# Altium integrated library Linear Technology Operational Amplifiers (LT1000).IntLib: 2280 symbols (part 63 of 79)
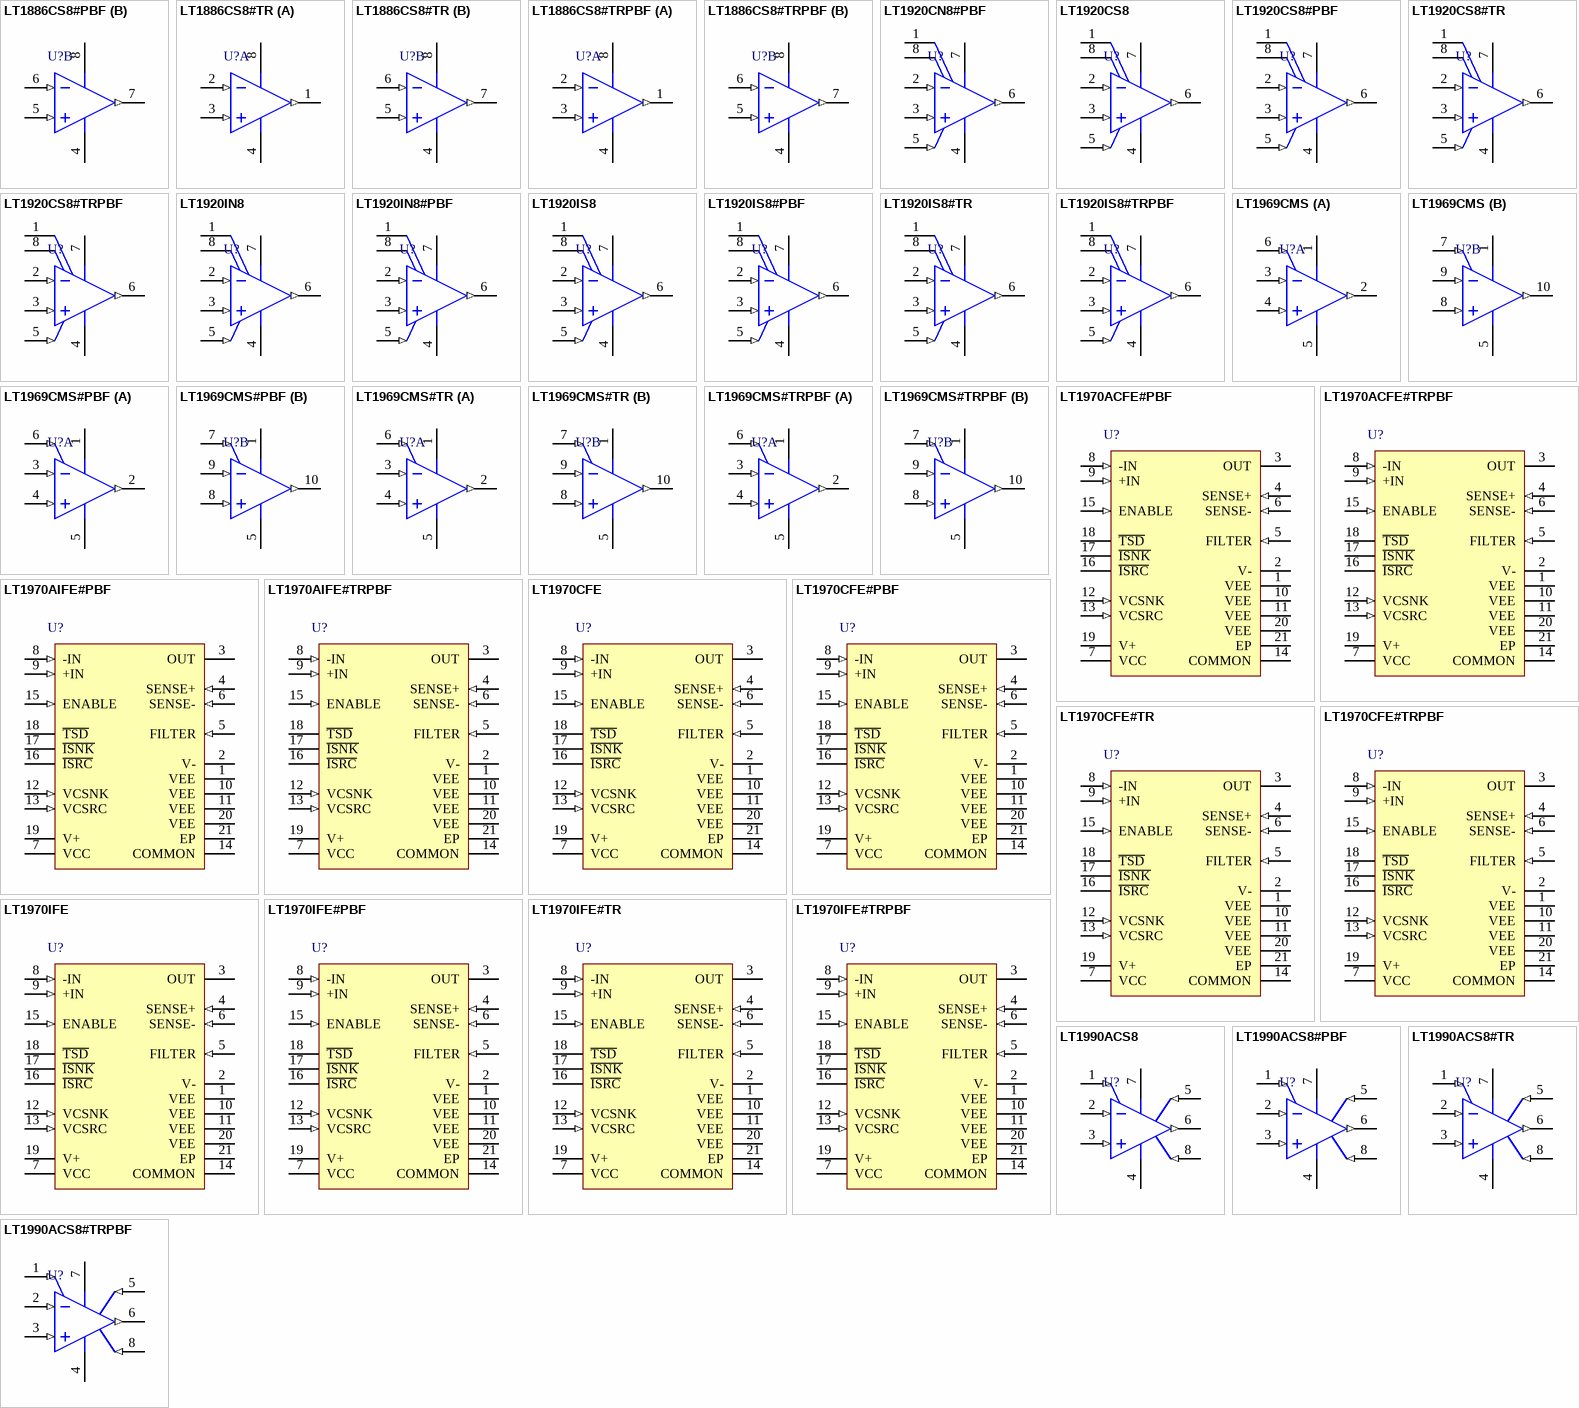
[diagram p167: symbols LT1886CS8#PBF to LT1990ACS8#TRPBF]

## LT1970IFE
designator U?
Single Channel, 500mA Power Op Amp with Adjustable Precision Current Limit, 3.6 MHz Typical GBW, 1.6 V/us Typical SR, 5 to 36 V, 20-Pin SOP (FE-20), Industrial; Linear Technology Part Number: LT1970A; Manufacturer: Linear Technology; PartNumber: LT1970IFE; Channels (#): 1; GBW (MHz) Typical: 3.6; Is (mA) Typical: 7; SR (V/us) Typical: 1.6; Vos (mV) Guaranteed: 0.6; Vos (mV) Typical: 0.2; Vs Max (V): 36; Vs Min (V): 5; DatasheetVersion: Rev. A; PackageVersion: Rev I; PackageReference: LT-FE-20-EPV-CA; PackageDescription: 20-Lead Plastic TSSOP, Body 6.50 x 4.40 mm, Pitch 0.65 mm; Supplier 1: Digi-Key; Supplier Part Number 1: LT1970IFE-ND; Type: VFB; Mounting Technology: Surface Mount; ComponentLink1Description: Manufacturer URL; ComponentLink1URL: http://www.linear.com/; ComponentLink2Description: Datasheet; ComponentLink2URL: http://www.linear.com/docs/en/datasheet/1970afa.pdf; ComponentLink3Description: Package Specification; ComponentLink3URL: http://cds.linear.com/docs/en/packaging/05081663_I_FE20%28CA%29.pdf
footprint LT-FE-20-EPV-CA_N (SOP, 20-Leads, Body 6.5x4.4mm, Pitch 0.65mm, Thermal Pad 4.95 x 2.74mm, IPC Medium Density)
footprint LT-FE-20-EPV-CA_L (SOP, 20-Leads, Body 6.5x4.4mm, Pitch 0.65mm, Thermal Pad 4.95 x 2.74mm, IPC High Density)
footprint LT-FE-20-EPV-CA_M (SOP, 20-Leads, Body 6.5x4.4mm, Pitch 0.65mm, Thermal Pad 4.95 x2.74mm, IPC Low Density)
pins: 1 VEE (power) "Minus Supply Voltage. VEEconnects to the substrate of the integrated circuit die, and therefore must always be the most negative voltage applied to the part. Decouple VEE to ground with a low ESR capacitor. VEE may be a (See Datasheet)", 2 V- (power) "Output Stage Negative Supply. V- may equal VEE or may be smaller in magnitude. Only output stage current flows out of V-, all other current flows out of VEE.V- may be used to drive the base/gate of an external power device (See Datasheet)", 3 OUT (hiz) "Amplifier Output. The OUT pin provides the force function as part of a Kelvin sensed load connection.OUT is normally connected directly to an external load current sense resistor and the SENSE+ pin. Amplifier feedback is (See Datasheet)", 4 SENSE+ (in) "Positive Current Sense Pin. This lead is normally connected to the driven end of the external sense resistor. Sourcing current limit operation is activated when the voltage VSENSE (VSENSE+ - VSENSE-) equals 1/10 of the (See Datasheet)", 5 FILTER (in) "Current Sense Filter Pin. This pin is normally not used and should be left open or shorted to the SENSE- pin. The FILTER pin can be used to adapt the response time of the current sense amplifiers with a 1nF to 100nF (See Datasheet)", 6 SENSE- (in) "Negative Current Sense Pin. This pin is normally connected to the load end of the external sense resistor. Sourcing current limit operation is activated when the voltage VSENSE (VSENSE+ - VSENSE-) equals 1/10 of the (See Datasheet)", 7 VCC (power) "Positive Supply Voltage. All circuitry except the output transistors draw power from VCC. Total supply voltage from VCC to VEE must be between 3.5V and 36V.VCC must always be greater than or equal to V+. VCC should always be (See Datasheet)", 8 -IN (in) "Inverting Input of Amplifier. -IN may be any voltage from VEE - 0.3V to VEE + 36V. -IN and +IN remain high impedance at all times to prevent current flow into the inputs when current limit mode is active. Care must be taken (See Datasheet)", 9 +IN (in) "Noninverting Input of Amplifier. +IN may be any voltage from VEE - 0.3V to VEE + 36V. -IN and +IN remain high impedance at all times to prevent current flow into the inputs when current limit mode is active. Care must be (See Datasheet)", 10 VEE (power) "Minus Supply Voltage. VEEconnects to the substrate of the integrated circuit die, and therefore must always be the most negative voltage applied to the part. Decouple VEE to ground with a low ESR capacitor. VEE may be a (See Datasheet)", 11 VEE (power) "Minus Supply Voltage. VEEconnects to the substrate of the integrated circuit die, and therefore must always be the most negative voltage applied to the part. Decouple VEE to ground with a low ESR capacitor. VEE may be a (See Datasheet)", 12 VCSNK (in) "Sink Current Limit Control Voltage Input.The current sink limit amplifier will activate when the sense voltage between SENSE+ and SENSE- equals -1.0 • VVCSNK/10. VCSNK may be set between VCOMMON and VCOMMON + 6V. The (See Datasheet)", 13 VCSRC (in) "Source Current Limit Control Voltage Input. The current source limit amplifier will activate when the sense voltage between SENSE+ and SENSE- equals VVCSRC/10. VCSRC may be set between VCOMMON and VCOMMON + 6V. The transfer (See Datasheet)", 14 COMMON (power) "Control and ENABLE inputs and flag outputs are referenced to the COMMON pin. COMMON may be at any potential between VEE and VCC - 3V. In typical applications, COMMON is connected to ground.", 15 ENABLE (in) "ENABLE Digital Input Control. When taken low this TTL-level digital input turns off the amplifier output and drops supply current to less than 1mA.Use the ENABLE pin to force zero output current. Setting VCSNK = VCSRC = 0V (See Datasheet)", 16 ~{ISRC} (oc) "Sourcing Current Limit Digital Output Flag.I\S\R\C\ is an open-collector digital output. I\S\R\C\ pulls low whenever the sourcing current limit amplifier assumes control of the output. This pin can sink up to 10mA of current.(See Datasheet)", 17 ~{ISNK} (oc) "Sinking Current Limit Digital Output Flag.I\S\N\K\ is an open-collector digital output. I\S\N\K\ pulls low whenever the sinking current limit amplifier assumes control of the output. This pin can sink up to 10mA of current. (See Datasheet)", 18 ~{TSD} (oc) "Thermal Shutdown Digital Output Flag. T\S\D\ is an open-collector digital output. T\S\D\ pulls low whenever the internal thermal shutdown circuit activates, typically at a die temperature of 160degreesC. This pin can sink up (See Datasheet)", 19 V+ (power) "Output Stage Positive Supply. V+ may equal VCC or may be smaller in magnitude. Only output stage current flows through V+, all other current flows into VCC.V+ may be used to drive the base/gate of an external power device to (See Datasheet)", 20 VEE (power) "Minus Supply Voltage. VEEconnects to the substrate of the integrated circuit die, and therefore must always be the most negative voltage applied to the part. Decouple VEE to ground with a low ESR capacitor. VEE may be a (See Datasheet)", 21 EP (power) "The exposed backside of the package is electrically connected to the VEE pins on the IC die.The package base should be soldered to a heat spreading pad on the PC board that is electrically connected to VEE."

## LT1970IFE#PBF
designator U?
Single Channel, 500mA Power Op Amp with Adjustable Precision Current Limit, 3.6 MHz Typical GBW, 1.6 V/us Typical SR, 5 to 36 V, 20-Pin SOP (FE-20), Industrial, Pb-Free; Linear Technology Part Number: LT1970A; Manufacturer: Linear Technology; PartNumber: LT1970IFE#PBF; Channels (#): 1; GBW (MHz) Typical: 3.6; Is (mA) Typical: 7; SR (V/us) Typical: 1.6; Vos (mV) Guaranteed: 0.6; Vos (mV) Typical: 0.2; Vs Max (V): 36; Vs Min (V): 5; DatasheetVersion: Rev. A; PackageVersion: Rev I; PackageReference: LT-FE-20-EPV-CA; PackageDescription: 20-Lead Plastic TSSOP, Body 6.50 x 4.40 mm, Pitch 0.65 mm; Supplier 1: Digi-Key; Supplier Part Number 1: LT1970IFE#PBF-ND; Supplier 2: Farnell; Supplier Part Number 2: 2294689; Supplier 3: Newark; Supplier Part Number 3: 57M7615; RoHS: Pb-Free; Type: VFB; Mounting Technology: Surface Mount; ComponentLink1Description: Manufacturer URL; ComponentLink1URL: http://www.linear.com/; ComponentLink2Description: Datasheet; ComponentLink2URL: http://www.linear.com/docs/en/datasheet/1970afa.pdf; ComponentLink3Description: Package Specification; ComponentLink3URL: http://cds.linear.com/docs/en/packaging/05081663_I_FE20%28CA%29.pdf
footprint LT-FE-20-EPV-CA_N (SOP, 20-Leads, Body 6.5x4.4mm, Pitch 0.65mm, Thermal Pad 4.95 x 2.74mm, IPC Medium Density)
footprint LT-FE-20-EPV-CA_L (SOP, 20-Leads, Body 6.5x4.4mm, Pitch 0.65mm, Thermal Pad 4.95 x 2.74mm, IPC High Density)
footprint LT-FE-20-EPV-CA_M (SOP, 20-Leads, Body 6.5x4.4mm, Pitch 0.65mm, Thermal Pad 4.95 x2.74mm, IPC Low Density)
pins: 1 VEE (power) "Minus Supply Voltage. VEEconnects to the substrate of the integrated circuit die, and therefore must always be the most negative voltage applied to the part. Decouple VEE to ground with a low ESR capacitor. VEE may be a (See Datasheet)", 2 V- (power) "Output Stage Negative Supply. V- may equal VEE or may be smaller in magnitude. Only output stage current flows out of V-, all other current flows out of VEE.V- may be used to drive the base/gate of an external power device (See Datasheet)", 3 OUT (hiz) "Amplifier Output. The OUT pin provides the force function as part of a Kelvin sensed load connection.OUT is normally connected directly to an external load current sense resistor and the SENSE+ pin. Amplifier feedback is (See Datasheet)", 4 SENSE+ (in) "Positive Current Sense Pin. This lead is normally connected to the driven end of the external sense resistor. Sourcing current limit operation is activated when the voltage VSENSE (VSENSE+ - VSENSE-) equals 1/10 of the (See Datasheet)", 5 FILTER (in) "Current Sense Filter Pin. This pin is normally not used and should be left open or shorted to the SENSE- pin. The FILTER pin can be used to adapt the response time of the current sense amplifiers with a 1nF to 100nF (See Datasheet)", 6 SENSE- (in) "Negative Current Sense Pin. This pin is normally connected to the load end of the external sense resistor. Sourcing current limit operation is activated when the voltage VSENSE (VSENSE+ - VSENSE-) equals 1/10 of the (See Datasheet)", 7 VCC (power) "Positive Supply Voltage. All circuitry except the output transistors draw power from VCC. Total supply voltage from VCC to VEE must be between 3.5V and 36V.VCC must always be greater than or equal to V+. VCC should always be (See Datasheet)", 8 -IN (in) "Inverting Input of Amplifier. -IN may be any voltage from VEE - 0.3V to VEE + 36V. -IN and +IN remain high impedance at all times to prevent current flow into the inputs when current limit mode is active. Care must be taken (See Datasheet)", 9 +IN (in) "Noninverting Input of Amplifier. +IN may be any voltage from VEE - 0.3V to VEE + 36V. -IN and +IN remain high impedance at all times to prevent current flow into the inputs when current limit mode is active. Care must be (See Datasheet)", 10 VEE (power) "Minus Supply Voltage. VEEconnects to the substrate of the integrated circuit die, and therefore must always be the most negative voltage applied to the part. Decouple VEE to ground with a low ESR capacitor. VEE may be a (See Datasheet)", 11 VEE (power) "Minus Supply Voltage. VEEconnects to the substrate of the integrated circuit die, and therefore must always be the most negative voltage applied to the part. Decouple VEE to ground with a low ESR capacitor. VEE may be a (See Datasheet)", 12 VCSNK (in) "Sink Current Limit Control Voltage Input.The current sink limit amplifier will activate when the sense voltage between SENSE+ and SENSE- equals -1.0 • VVCSNK/10. VCSNK may be set between VCOMMON and VCOMMON + 6V. The (See Datasheet)", 13 VCSRC (in) "Source Current Limit Control Voltage Input. The current source limit amplifier will activate when the sense voltage between SENSE+ and SENSE- equals VVCSRC/10. VCSRC may be set between VCOMMON and VCOMMON + 6V. The transfer (See Datasheet)", 14 COMMON (power) "Control and ENABLE inputs and flag outputs are referenced to the COMMON pin. COMMON may be at any potential between VEE and VCC - 3V. In typical applications, COMMON is connected to ground.", 15 ENABLE (in) "ENABLE Digital Input Control. When taken low this TTL-level digital input turns off the amplifier output and drops supply current to less than 1mA.Use the ENABLE pin to force zero output current. Setting VCSNK = VCSRC = 0V (See Datasheet)", 16 ~{ISRC} (oc) "Sourcing Current Limit Digital Output Flag.I\S\R\C\ is an open-collector digital output. I\S\R\C\ pulls low whenever the sourcing current limit amplifier assumes control of the output. This pin can sink up to 10mA of current.(See Datasheet)", 17 ~{ISNK} (oc) "Sinking Current Limit Digital Output Flag.I\S\N\K\ is an open-collector digital output. I\S\N\K\ pulls low whenever the sinking current limit amplifier assumes control of the output. This pin can sink up to 10mA of current. (See Datasheet)", 18 ~{TSD} (oc) "Thermal Shutdown Digital Output Flag. T\S\D\ is an open-collector digital output. T\S\D\ pulls low whenever the internal thermal shutdown circuit activates, typically at a die temperature of 160degreesC. This pin can sink up (See Datasheet)", 19 V+ (power) "Output Stage Positive Supply. V+ may equal VCC or may be smaller in magnitude. Only output stage current flows through V+, all other current flows into VCC.V+ may be used to drive the base/gate of an external power device to (See Datasheet)", 20 VEE (power) "Minus Supply Voltage. VEEconnects to the substrate of the integrated circuit die, and therefore must always be the most negative voltage applied to the part. Decouple VEE to ground with a low ESR capacitor. VEE may be a (See Datasheet)", 21 EP (power) "The exposed backside of the package is electrically connected to the VEE pins on the IC die.The package base should be soldered to a heat spreading pad on the PC board that is electrically connected to VEE."

## LT1970IFE#TR
designator U?
Single Channel, 500mA Power Op Amp with Adjustable Precision Current Limit, 3.6 MHz Typical GBW, 1.6 V/us Typical SR, 5 to 36 V, 20-Pin SOP (FE-20), Industrial, Reel; Linear Technology Part Number: LT1970A; Manufacturer: Linear Technology; PartNumber: LT1970IFE#TR; Channels (#): 1; GBW (MHz) Typical: 3.6; Is (mA) Typical: 7; SR (V/us) Typical: 1.6; Vos (mV) Guaranteed: 0.6; Vos (mV) Typical: 0.2; Vs Max (V): 36; Vs Min (V): 5; DatasheetVersion: Rev. A; PackageVersion: Rev I; PackageReference: LT-FE-20-EPV-CA; PackageDescription: 20-Lead Plastic TSSOP, Body 6.50 x 4.40 mm, Pitch 0.65 mm; Supplier 1: Digi-Key; Supplier Part Number 1: LT1970IFE#TR-ND; Packing: Reel; Type: VFB; Mounting Technology: Surface Mount; ComponentLink1Description: Manufacturer URL; ComponentLink1URL: http://www.linear.com/; ComponentLink2Description: Datasheet; ComponentLink2URL: http://www.linear.com/docs/en/datasheet/1970afa.pdf; ComponentLink3Description: Package Specification; ComponentLink3URL: http://cds.linear.com/docs/en/packaging/05081663_I_FE20%28CA%29.pdf
footprint LT-FE-20-EPV-CA_N (SOP, 20-Leads, Body 6.5x4.4mm, Pitch 0.65mm, Thermal Pad 4.95 x 2.74mm, IPC Medium Density)
footprint LT-FE-20-EPV-CA_L (SOP, 20-Leads, Body 6.5x4.4mm, Pitch 0.65mm, Thermal Pad 4.95 x 2.74mm, IPC High Density)
footprint LT-FE-20-EPV-CA_M (SOP, 20-Leads, Body 6.5x4.4mm, Pitch 0.65mm, Thermal Pad 4.95 x2.74mm, IPC Low Density)
pins: 1 VEE (power) "Minus Supply Voltage. VEEconnects to the substrate of the integrated circuit die, and therefore must always be the most negative voltage applied to the part. Decouple VEE to ground with a low ESR capacitor. VEE may be a (See Datasheet)", 2 V- (power) "Output Stage Negative Supply. V- may equal VEE or may be smaller in magnitude. Only output stage current flows out of V-, all other current flows out of VEE.V- may be used to drive the base/gate of an external power device (See Datasheet)", 3 OUT (hiz) "Amplifier Output. The OUT pin provides the force function as part of a Kelvin sensed load connection.OUT is normally connected directly to an external load current sense resistor and the SENSE+ pin. Amplifier feedback is (See Datasheet)", 4 SENSE+ (in) "Positive Current Sense Pin. This lead is normally connected to the driven end of the external sense resistor. Sourcing current limit operation is activated when the voltage VSENSE (VSENSE+ - VSENSE-) equals 1/10 of the (See Datasheet)", 5 FILTER (in) "Current Sense Filter Pin. This pin is normally not used and should be left open or shorted to the SENSE- pin. The FILTER pin can be used to adapt the response time of the current sense amplifiers with a 1nF to 100nF (See Datasheet)", 6 SENSE- (in) "Negative Current Sense Pin. This pin is normally connected to the load end of the external sense resistor. Sourcing current limit operation is activated when the voltage VSENSE (VSENSE+ - VSENSE-) equals 1/10 of the (See Datasheet)", 7 VCC (power) "Positive Supply Voltage. All circuitry except the output transistors draw power from VCC. Total supply voltage from VCC to VEE must be between 3.5V and 36V.VCC must always be greater than or equal to V+. VCC should always be (See Datasheet)", 8 -IN (in) "Inverting Input of Amplifier. -IN may be any voltage from VEE - 0.3V to VEE + 36V. -IN and +IN remain high impedance at all times to prevent current flow into the inputs when current limit mode is active. Care must be taken (See Datasheet)", 9 +IN (in) "Noninverting Input of Amplifier. +IN may be any voltage from VEE - 0.3V to VEE + 36V. -IN and +IN remain high impedance at all times to prevent current flow into the inputs when current limit mode is active. Care must be (See Datasheet)", 10 VEE (power) "Minus Supply Voltage. VEEconnects to the substrate of the integrated circuit die, and therefore must always be the most negative voltage applied to the part. Decouple VEE to ground with a low ESR capacitor. VEE may be a (See Datasheet)", 11 VEE (power) "Minus Supply Voltage. VEEconnects to the substrate of the integrated circuit die, and therefore must always be the most negative voltage applied to the part. Decouple VEE to ground with a low ESR capacitor. VEE may be a (See Datasheet)", 12 VCSNK (in) "Sink Current Limit Control Voltage Input.The current sink limit amplifier will activate when the sense voltage between SENSE+ and SENSE- equals -1.0 • VVCSNK/10. VCSNK may be set between VCOMMON and VCOMMON + 6V. The (See Datasheet)", 13 VCSRC (in) "Source Current Limit Control Voltage Input. The current source limit amplifier will activate when the sense voltage between SENSE+ and SENSE- equals VVCSRC/10. VCSRC may be set between VCOMMON and VCOMMON + 6V. The transfer (See Datasheet)", 14 COMMON (power) "Control and ENABLE inputs and flag outputs are referenced to the COMMON pin. COMMON may be at any potential between VEE and VCC - 3V. In typical applications, COMMON is connected to ground.", 15 ENABLE (in) "ENABLE Digital Input Control. When taken low this TTL-level digital input turns off the amplifier output and drops supply current to less than 1mA.Use the ENABLE pin to force zero output current. Setting VCSNK = VCSRC = 0V (See Datasheet)", 16 ~{ISRC} (oc) "Sourcing Current Limit Digital Output Flag.I\S\R\C\ is an open-collector digital output. I\S\R\C\ pulls low whenever the sourcing current limit amplifier assumes control of the output. This pin can sink up to 10mA of current.(See Datasheet)", 17 ~{ISNK} (oc) "Sinking Current Limit Digital Output Flag.I\S\N\K\ is an open-collector digital output. I\S\N\K\ pulls low whenever the sinking current limit amplifier assumes control of the output. This pin can sink up to 10mA of current. (See Datasheet)", 18 ~{TSD} (oc) "Thermal Shutdown Digital Output Flag. T\S\D\ is an open-collector digital output. T\S\D\ pulls low whenever the internal thermal shutdown circuit activates, typically at a die temperature of 160degreesC. This pin can sink up (See Datasheet)", 19 V+ (power) "Output Stage Positive Supply. V+ may equal VCC or may be smaller in magnitude. Only output stage current flows through V+, all other current flows into VCC.V+ may be used to drive the base/gate of an external power device to (See Datasheet)", 20 VEE (power) "Minus Supply Voltage. VEEconnects to the substrate of the integrated circuit die, and therefore must always be the most negative voltage applied to the part. Decouple VEE to ground with a low ESR capacitor. VEE may be a (See Datasheet)", 21 EP (power) "The exposed backside of the package is electrically connected to the VEE pins on the IC die.The package base should be soldered to a heat spreading pad on the PC board that is electrically connected to VEE."

## LT1970IFE#TRPBF
designator U?
Single Channel, 500mA Power Op Amp with Adjustable Precision Current Limit, 3.6 MHz Typical GBW, 1.6 V/us Typical SR, 5 to 36 V, 20-Pin SOP (FE-20), Industrial, Pb-Free, Reel; Linear Technology Part Number: LT1970A; Manufacturer: Linear Technology; PartNumber: LT1970IFE#TRPBF; Channels (#): 1; GBW (MHz) Typical: 3.6; Is (mA) Typical: 7; SR (V/us) Typical: 1.6; Vos (mV) Guaranteed: 0.6; Vos (mV) Typical: 0.2; Vs Max (V): 36; Vs Min (V): 5; DatasheetVersion: Rev. A; PackageVersion: Rev I; PackageReference: LT-FE-20-EPV-CA; PackageDescription: 20-Lead Plastic TSSOP, Body 6.50 x 4.40 mm, Pitch 0.65 mm; Supplier 1: Digi-Key; Supplier Part Number 1: LT1970IFE#TRPBF-ND; Supplier 2: Newark; Supplier Part Number 2: 57M7617; Packing: Reel; RoHS: Pb-Free; Type: VFB; Mounting Technology: Surface Mount; ComponentLink1Description: Manufacturer URL; ComponentLink1URL: http://www.linear.com/; ComponentLink2Description: Datasheet; ComponentLink2URL: http://www.linear.com/docs/en/datasheet/1970afa.pdf; ComponentLink3Description: Package Specification; ComponentLink3URL: http://cds.linear.com/docs/en/packaging/05081663_I_FE20%28CA%29.pdf
footprint LT-FE-20-EPV-CA_N (SOP, 20-Leads, Body 6.5x4.4mm, Pitch 0.65mm, Thermal Pad 4.95 x 2.74mm, IPC Medium Density)
footprint LT-FE-20-EPV-CA_L (SOP, 20-Leads, Body 6.5x4.4mm, Pitch 0.65mm, Thermal Pad 4.95 x 2.74mm, IPC High Density)
footprint LT-FE-20-EPV-CA_M (SOP, 20-Leads, Body 6.5x4.4mm, Pitch 0.65mm, Thermal Pad 4.95 x2.74mm, IPC Low Density)
pins: 1 VEE (power) "Minus Supply Voltage. VEEconnects to the substrate of the integrated circuit die, and therefore must always be the most negative voltage applied to the part. Decouple VEE to ground with a low ESR capacitor. VEE may be a (See Datasheet)", 2 V- (power) "Output Stage Negative Supply. V- may equal VEE or may be smaller in magnitude. Only output stage current flows out of V-, all other current flows out of VEE.V- may be used to drive the base/gate of an external power device (See Datasheet)", 3 OUT (hiz) "Amplifier Output. The OUT pin provides the force function as part of a Kelvin sensed load connection.OUT is normally connected directly to an external load current sense resistor and the SENSE+ pin. Amplifier feedback is (See Datasheet)", 4 SENSE+ (in) "Positive Current Sense Pin. This lead is normally connected to the driven end of the external sense resistor. Sourcing current limit operation is activated when the voltage VSENSE (VSENSE+ - VSENSE-) equals 1/10 of the (See Datasheet)", 5 FILTER (in) "Current Sense Filter Pin. This pin is normally not used and should be left open or shorted to the SENSE- pin. The FILTER pin can be used to adapt the response time of the current sense amplifiers with a 1nF to 100nF (See Datasheet)", 6 SENSE- (in) "Negative Current Sense Pin. This pin is normally connected to the load end of the external sense resistor. Sourcing current limit operation is activated when the voltage VSENSE (VSENSE+ - VSENSE-) equals 1/10 of the (See Datasheet)", 7 VCC (power) "Positive Supply Voltage. All circuitry except the output transistors draw power from VCC. Total supply voltage from VCC to VEE must be between 3.5V and 36V.VCC must always be greater than or equal to V+. VCC should always be (See Datasheet)", 8 -IN (in) "Inverting Input of Amplifier. -IN may be any voltage from VEE - 0.3V to VEE + 36V. -IN and +IN remain high impedance at all times to prevent current flow into the inputs when current limit mode is active. Care must be taken (See Datasheet)", 9 +IN (in) "Noninverting Input of Amplifier. +IN may be any voltage from VEE - 0.3V to VEE + 36V. -IN and +IN remain high impedance at all times to prevent current flow into the inputs when current limit mode is active. Care must be (See Datasheet)", 10 VEE (power) "Minus Supply Voltage. VEEconnects to the substrate of the integrated circuit die, and therefore must always be the most negative voltage applied to the part. Decouple VEE to ground with a low ESR capacitor. VEE may be a (See Datasheet)", 11 VEE (power) "Minus Supply Voltage. VEEconnects to the substrate of the integrated circuit die, and therefore must always be the most negative voltage applied to the part. Decouple VEE to ground with a low ESR capacitor. VEE may be a (See Datasheet)", 12 VCSNK (in) "Sink Current Limit Control Voltage Input.The current sink limit amplifier will activate when the sense voltage between SENSE+ and SENSE- equals -1.0 • VVCSNK/10. VCSNK may be set between VCOMMON and VCOMMON + 6V. The (See Datasheet)", 13 VCSRC (in) "Source Current Limit Control Voltage Input. The current source limit amplifier will activate when the sense voltage between SENSE+ and SENSE- equals VVCSRC/10. VCSRC may be set between VCOMMON and VCOMMON + 6V. The transfer (See Datasheet)", 14 COMMON (power) "Control and ENABLE inputs and flag outputs are referenced to the COMMON pin. COMMON may be at any potential between VEE and VCC - 3V. In typical applications, COMMON is connected to ground.", 15 ENABLE (in) "ENABLE Digital Input Control. When taken low this TTL-level digital input turns off the amplifier output and drops supply current to less than 1mA.Use the ENABLE pin to force zero output current. Setting VCSNK = VCSRC = 0V (See Datasheet)", 16 ~{ISRC} (oc) "Sourcing Current Limit Digital Output Flag.I\S\R\C\ is an open-collector digital output. I\S\R\C\ pulls low whenever the sourcing current limit amplifier assumes control of the output. This pin can sink up to 10mA of current.(See Datasheet)", 17 ~{ISNK} (oc) "Sinking Current Limit Digital Output Flag.I\S\N\K\ is an open-collector digital output. I\S\N\K\ pulls low whenever the sinking current limit amplifier assumes control of the output. This pin can sink up to 10mA of current. (See Datasheet)", 18 ~{TSD} (oc) "Thermal Shutdown Digital Output Flag. T\S\D\ is an open-collector digital output. T\S\D\ pulls low whenever the internal thermal shutdown circuit activates, typically at a die temperature of 160degreesC. This pin can sink up (See Datasheet)", 19 V+ (power) "Output Stage Positive Supply. V+ may equal VCC or may be smaller in magnitude. Only output stage current flows through V+, all other current flows into VCC.V+ may be used to drive the base/gate of an external power device to (See Datasheet)", 20 VEE (power) "Minus Supply Voltage. VEEconnects to the substrate of the integrated circuit die, and therefore must always be the most negative voltage applied to the part. Decouple VEE to ground with a low ESR capacitor. VEE may be a (See Datasheet)", 21 EP (power) "The exposed backside of the package is electrically connected to the VEE pins on the IC die.The package base should be soldered to a heat spreading pad on the PC board that is electrically connected to VEE."

## LT1990ACS8
designator U?
Single Channel, Integrated Resistors, Micropower, Difference Amplifier, 0.1 MHz Typical GBW, 0.55 V/us Typical SR, 2.4 to 36 V, 8-Pin SOIC (S8-8), Commercial; Linear Technology Part Number: LT1990; Manufacturer: Linear Technology; PartNumber: LT1990ACS8; Channels (#): 1; GBW (MHz) Typical: 0.1; Is (mA) Typical: 0.14; SR (V/us) Typical: 0.55; Vos (mV) Guaranteed: 5.2; Vos (mV) Typical: 0.9; Vs Max (V): 36; Vs Min (V): 2.4; DatasheetVersion: Rev. B; PackageVersion: Rev G; PackageReference: LT-S8-8; PackageDescription: 8-Pin Plastic Small Outline, Body 4.9 x 3.9 mm, Pitch 1.27 mm; Supplier 1: Digi-Key; Supplier Part Number 1: LT1990ACS8-ND; Type: SGA; Mounting Technology: Surface Mount; ComponentLink1Description: Manufacturer URL; ComponentLink1URL: http://www.linear.com/; ComponentLink2Description: Datasheet; ComponentLink2URL: http://cds.linear.com/docs/en/datasheet/1990fb.pdf; ComponentLink3Description: Package Specification; ComponentLink3URL: http://cds.linear.com/docs/en/packaging/05081610_G_SO8.pdf
footprint LT-S8-8_N (SOIC, 8-Leads, Body 4.9x3.9mm, Pitch 1.27mm, IPC Medium Density)
footprint LT-S8-8_L (SOIC, 8-Leads, Body 4.9x3.9mm, Pitch 1.27mm, IPC High Density)
footprint LT-S8-8_M (SOIC, 8-Leads, Body 4.9x3.9mm, Pitch 1.27mm, IPC Low Density)
pins: 1 REF (in) "Reference Input. Sets the output level when the difference between the inputs is zero.", 2 -IN (in) "Inverting Input. Connects a 1Mohm resistor to the op amp’s inverting input. Designed to permit high voltage operation.", 3 +IN (in) "Noninverting Input. Connects a 1Mohm resistor to the op amp’s noninverting input. Designed to permit high voltage operation.", 4 V- (power) "Negative Power Supply. Can be either ground (in single supply applications) or a negative voltage (in split supply applications).", 5 GAIN2 (in) "Gain = 10 Select Input. Configures the amplifier for a gain of 10 when connected to the GAIN1 pin and the REF pin. The gain is equal to one when both GAIN2 and GAIN1 are open. See Applications section for additional (See Datasheet)", 6 OUT (out) "Output. VOUT = G • (V+IN - V-IN) + VREF, in the basic configuration.", 7 V+ (power) "Positive Power Supply. Can range from 2.7V to 36V above the V- voltage.", 8 GAIN1 (in) "Gain = 10 Select Input. Configures the amplifier for a gain of 10 when connected to the GAIN2 pin and the REF pin. The gain is equal to one when both GAIN1 and GAIN2 are open. See Applications section for additional (See Datasheet)"

## LT1990ACS8#PBF
designator U?
Single Channel, Integrated Resistors, Micropower, Difference Amplifier, 0.1 MHz Typical GBW, 0.55 V/us Typical SR, 2.4 to 36 V, 8-Pin SOIC (S8-8), Commercial, Pb-Free; Linear Technology Part Number: LT1990; Manufacturer: Linear Technology; PartNumber: LT1990ACS8#PBF; Channels (#): 1; GBW (MHz) Typical: 0.1; Is (mA) Typical: 0.14; SR (V/us) Typical: 0.55; Vos (mV) Guaranteed: 5.2; Vos (mV) Typical: 0.9; Vs Max (V): 36; Vs Min (V): 2.4; DatasheetVersion: Rev. B; PackageVersion: Rev G; PackageReference: LT-S8-8; PackageDescription: 8-Pin Plastic Small Outline, Body 4.9 x 3.9 mm, Pitch 1.27 mm; Supplier 1: Digi-Key; Supplier Part Number 1: LT1990ACS8#PBF-ND; Supplier 2: Farnell; Supplier Part Number 2: 1330732; Supplier 3: Newark; Supplier Part Number 3: 57M7647; RoHS: Pb-Free; Type: SGA; Mounting Technology: Surface Mount; ComponentLink1Description: Manufacturer URL; ComponentLink1URL: http://www.linear.com/; ComponentLink2Description: Datasheet; ComponentLink2URL: http://cds.linear.com/docs/en/datasheet/1990fb.pdf; ComponentLink3Description: Package Specification; ComponentLink3URL: http://cds.linear.com/docs/en/packaging/05081610_G_SO8.pdf
footprint LT-S8-8_N (SOIC, 8-Leads, Body 4.9x3.9mm, Pitch 1.27mm, IPC Medium Density)
footprint LT-S8-8_L (SOIC, 8-Leads, Body 4.9x3.9mm, Pitch 1.27mm, IPC High Density)
footprint LT-S8-8_M (SOIC, 8-Leads, Body 4.9x3.9mm, Pitch 1.27mm, IPC Low Density)
pins: 1 REF (in) "Reference Input. Sets the output level when the difference between the inputs is zero.", 2 -IN (in) "Inverting Input. Connects a 1Mohm resistor to the op amp’s inverting input. Designed to permit high voltage operation.", 3 +IN (in) "Noninverting Input. Connects a 1Mohm resistor to the op amp’s noninverting input. Designed to permit high voltage operation.", 4 V- (power) "Negative Power Supply. Can be either ground (in single supply applications) or a negative voltage (in split supply applications).", 5 GAIN2 (in) "Gain = 10 Select Input. Configures the amplifier for a gain of 10 when connected to the GAIN1 pin and the REF pin. The gain is equal to one when both GAIN2 and GAIN1 are open. See Applications section for additional (See Datasheet)", 6 OUT (out) "Output. VOUT = G • (V+IN - V-IN) + VREF, in the basic configuration.", 7 V+ (power) "Positive Power Supply. Can range from 2.7V to 36V above the V- voltage.", 8 GAIN1 (in) "Gain = 10 Select Input. Configures the amplifier for a gain of 10 when connected to the GAIN2 pin and the REF pin. The gain is equal to one when both GAIN1 and GAIN2 are open. See Applications section for additional (See Datasheet)"

## LT1990ACS8#TR
designator U?
Single Channel, Integrated Resistors, Micropower, Difference Amplifier, 0.1 MHz Typical GBW, 0.55 V/us Typical SR, 2.4 to 36 V, 8-Pin SOIC (S8-8), Commercial, Reel; Linear Technology Part Number: LT1990; Manufacturer: Linear Technology; PartNumber: LT1990ACS8#TR; Channels (#): 1; GBW (MHz) Typical: 0.1; Is (mA) Typical: 0.14; SR (V/us) Typical: 0.55; Vos (mV) Guaranteed: 5.2; Vos (mV) Typical: 0.9; Vs Max (V): 36; Vs Min (V): 2.4; DatasheetVersion: Rev. B; PackageVersion: Rev G; PackageReference: LT-S8-8; PackageDescription: 8-Pin Plastic Small Outline, Body 4.9 x 3.9 mm, Pitch 1.27 mm; Supplier 1: Digi-Key; Supplier Part Number 1: LT1990ACS8#TR-ND; Packing: Reel; Type: SGA; Mounting Technology: Surface Mount; ComponentLink1Description: Manufacturer URL; ComponentLink1URL: http://www.linear.com/; ComponentLink2Description: Datasheet; ComponentLink2URL: http://cds.linear.com/docs/en/datasheet/1990fb.pdf; ComponentLink3Description: Package Specification; ComponentLink3URL: http://cds.linear.com/docs/en/packaging/05081610_G_SO8.pdf
footprint LT-S8-8_N (SOIC, 8-Leads, Body 4.9x3.9mm, Pitch 1.27mm, IPC Medium Density)
footprint LT-S8-8_L (SOIC, 8-Leads, Body 4.9x3.9mm, Pitch 1.27mm, IPC High Density)
footprint LT-S8-8_M (SOIC, 8-Leads, Body 4.9x3.9mm, Pitch 1.27mm, IPC Low Density)
pins: 1 REF (in) "Reference Input. Sets the output level when the difference between the inputs is zero.", 2 -IN (in) "Inverting Input. Connects a 1Mohm resistor to the op amp’s inverting input. Designed to permit high voltage operation.", 3 +IN (in) "Noninverting Input. Connects a 1Mohm resistor to the op amp’s noninverting input. Designed to permit high voltage operation.", 4 V- (power) "Negative Power Supply. Can be either ground (in single supply applications) or a negative voltage (in split supply applications).", 5 GAIN2 (in) "Gain = 10 Select Input. Configures the amplifier for a gain of 10 when connected to the GAIN1 pin and the REF pin. The gain is equal to one when both GAIN2 and GAIN1 are open. See Applications section for additional (See Datasheet)", 6 OUT (out) "Output. VOUT = G • (V+IN - V-IN) + VREF, in the basic configuration.", 7 V+ (power) "Positive Power Supply. Can range from 2.7V to 36V above the V- voltage.", 8 GAIN1 (in) "Gain = 10 Select Input. Configures the amplifier for a gain of 10 when connected to the GAIN2 pin and the REF pin. The gain is equal to one when both GAIN1 and GAIN2 are open. See Applications section for additional (See Datasheet)"

## LT1990ACS8#TRPBF
designator U?
Single Channel, Integrated Resistors, Micropower, Difference Amplifier, 0.1 MHz Typical GBW, 0.55 V/us Typical SR, 2.4 to 36 V, 8-Pin SOIC (S8-8), Commercial, Pb-Free, Reel; Linear Technology Part Number: LT1990; Manufacturer: Linear Technology; PartNumber: LT1990ACS8#TRPBF; Channels (#): 1; GBW (MHz) Typical: 0.1; Is (mA) Typical: 0.14; SR (V/us) Typical: 0.55; Vos (mV) Guaranteed: 5.2; Vos (mV) Typical: 0.9; Vs Max (V): 36; Vs Min (V): 2.4; DatasheetVersion: Rev. B; PackageVersion: Rev G; PackageReference: LT-S8-8; PackageDescription: 8-Pin Plastic Small Outline, Body 4.9 x 3.9 mm, Pitch 1.27 mm; Supplier 1: Digi-Key; Supplier Part Number 1: LT1990ACS8#TRPBF-ND; Supplier 2: Newark; Supplier Part Number 2: 57M7649; Packing: Reel; RoHS: Pb-Free; Type: SGA; Mounting Technology: Surface Mount; ComponentLink1Description: Manufacturer URL; ComponentLink1URL: http://www.linear.com/; ComponentLink2Description: Datasheet; ComponentLink2URL: http://cds.linear.com/docs/en/datasheet/1990fb.pdf; ComponentLink3Description: Package Specification; ComponentLink3URL: http://cds.linear.com/docs/en/packaging/05081610_G_SO8.pdf
footprint LT-S8-8_N (SOIC, 8-Leads, Body 4.9x3.9mm, Pitch 1.27mm, IPC Medium Density)
footprint LT-S8-8_L (SOIC, 8-Leads, Body 4.9x3.9mm, Pitch 1.27mm, IPC High Density)
footprint LT-S8-8_M (SOIC, 8-Leads, Body 4.9x3.9mm, Pitch 1.27mm, IPC Low Density)
pins: 1 REF (in) "Reference Input. Sets the output level when the difference between the inputs is zero.", 2 -IN (in) "Inverting Input. Connects a 1Mohm resistor to the op amp’s inverting input. Designed to permit high voltage operation.", 3 +IN (in) "Noninverting Input. Connects a 1Mohm resistor to the op amp’s noninverting input. Designed to permit high voltage operation.", 4 V- (power) "Negative Power Supply. Can be either ground (in single supply applications) or a negative voltage (in split supply applications).", 5 GAIN2 (in) "Gain = 10 Select Input. Configures the amplifier for a gain of 10 when connected to the GAIN1 pin and the REF pin. The gain is equal to one when both GAIN2 and GAIN1 are open. See Applications section for additional (See Datasheet)", 6 OUT (out) "Output. VOUT = G • (V+IN - V-IN) + VREF, in the basic configuration.", 7 V+ (power) "Positive Power Supply. Can range from 2.7V to 36V above the V- voltage.", 8 GAIN1 (in) "Gain = 10 Select Input. Configures the amplifier for a gain of 10 when connected to the GAIN2 pin and the REF pin. The gain is equal to one when both GAIN1 and GAIN2 are open. See Applications section for additional (See Datasheet)"

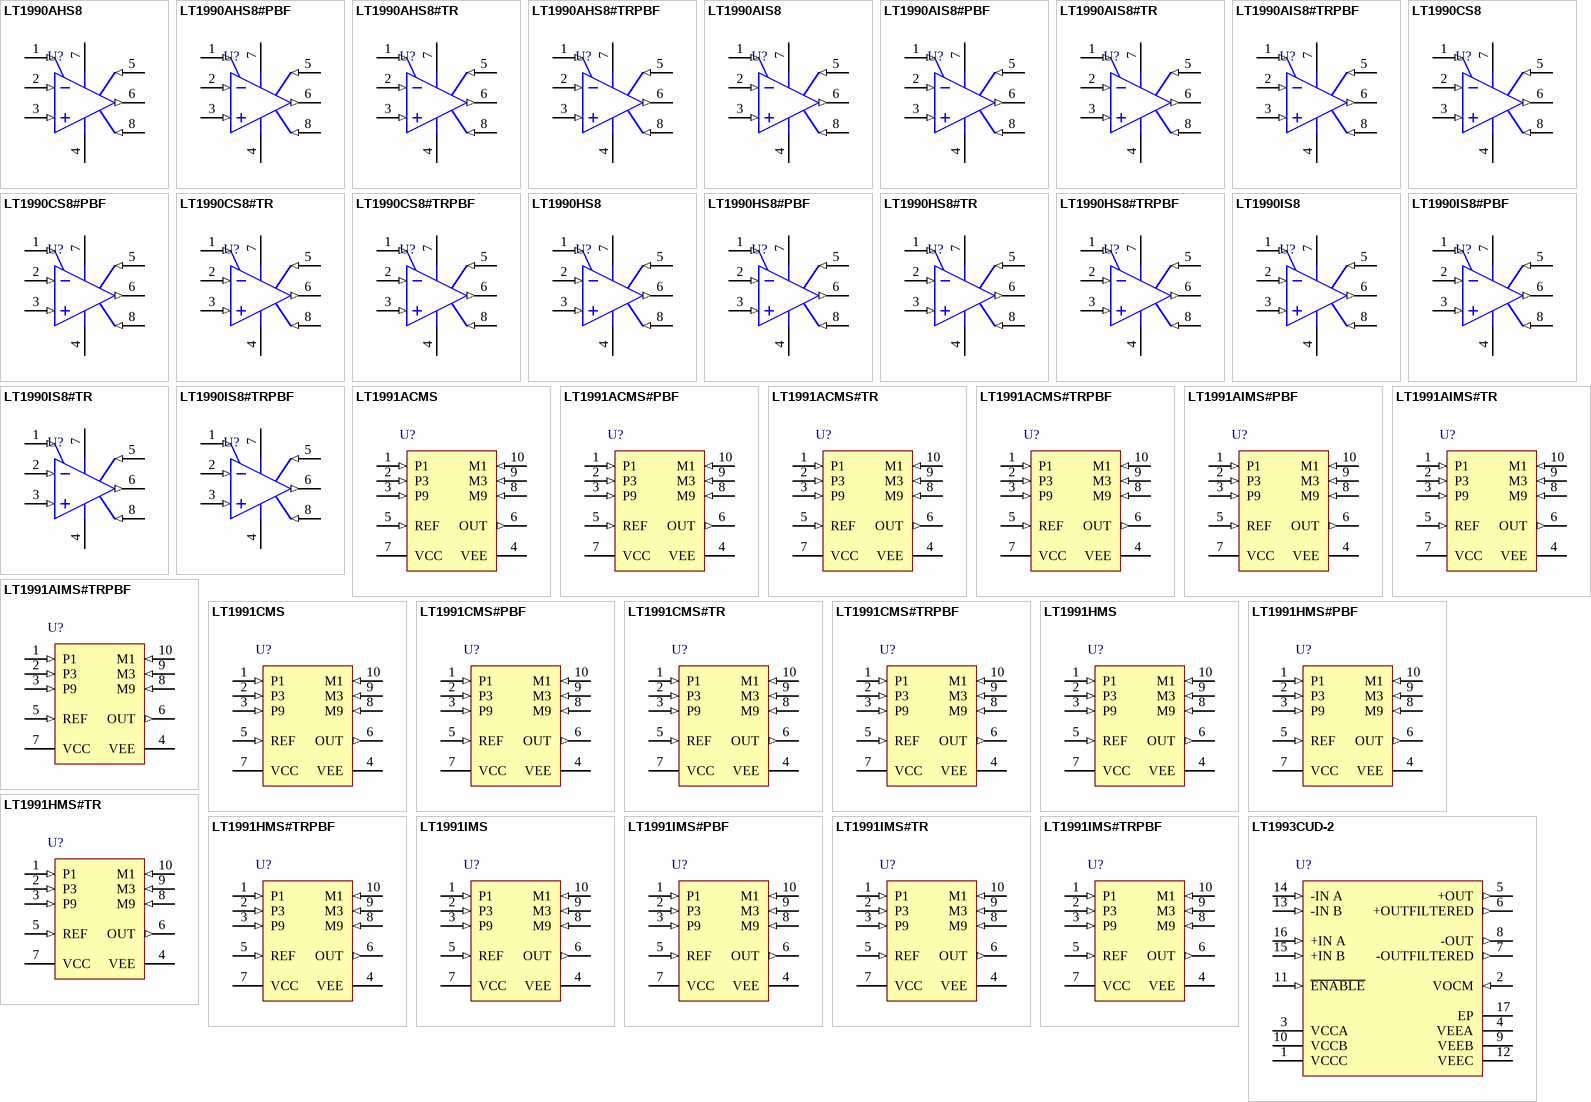
[diagram p97: symbols LT1990AHS8 to LT1993CUD-2]

## LT1990AHS8
designator U?
Single Channel, Integrated Resistors, Micropower, Difference Amplifier, 0.1 MHz Typical GBW, 0.55 V/us Typical SR, 2.4 to 36 V, 8-Pin SOIC (S8-8), High Temperature / Automotive; Linear Technology Part Number: LT1990; Manufacturer: Linear Technology; PartNumber: LT1990AHS8; Channels (#): 1; GBW (MHz) Typical: 0.1; Is (mA) Typical: 0.14; SR (V/us) Typical: 0.55; Vos (mV) Guaranteed: 5.2; Vos (mV) Typical: 0.9; Vs Max (V): 36; Vs Min (V): 2.4; DatasheetVersion: Rev. B; PackageVersion: Rev G; PackageReference: LT-S8-8; PackageDescription: 8-Pin Plastic Small Outline, Body 4.9 x 3.9 mm, Pitch 1.27 mm; Type: SGA; Mounting Technology: Surface Mount; ComponentLink1Description: Manufacturer URL; ComponentLink1URL: http://www.linear.com/; ComponentLink2Description: Datasheet; ComponentLink2URL: http://cds.linear.com/docs/en/datasheet/1990fb.pdf; ComponentLink3Description: Package Specification; ComponentLink3URL: http://cds.linear.com/docs/en/packaging/05081610_G_SO8.pdf
footprint LT-S8-8_N (SOIC, 8-Leads, Body 4.9x3.9mm, Pitch 1.27mm, IPC Medium Density)
footprint LT-S8-8_L (SOIC, 8-Leads, Body 4.9x3.9mm, Pitch 1.27mm, IPC High Density)
footprint LT-S8-8_M (SOIC, 8-Leads, Body 4.9x3.9mm, Pitch 1.27mm, IPC Low Density)
pins: 1 REF (in) "Reference Input. Sets the output level when the difference between the inputs is zero.", 2 -IN (in) "Inverting Input. Connects a 1Mohm resistor to the op amp’s inverting input. Designed to permit high voltage operation.", 3 +IN (in) "Noninverting Input. Connects a 1Mohm resistor to the op amp’s noninverting input. Designed to permit high voltage operation.", 4 V- (power) "Negative Power Supply. Can be either ground (in single supply applications) or a negative voltage (in split supply applications).", 5 GAIN2 (in) "Gain = 10 Select Input. Configures the amplifier for a gain of 10 when connected to the GAIN1 pin and the REF pin. The gain is equal to one when both GAIN2 and GAIN1 are open. See Applications section for additional (See Datasheet)", 6 OUT (out) "Output. VOUT = G • (V+IN - V-IN) + VREF, in the basic configuration.", 7 V+ (power) "Positive Power Supply. Can range from 2.7V to 36V above the V- voltage.", 8 GAIN1 (in) "Gain = 10 Select Input. Configures the amplifier for a gain of 10 when connected to the GAIN2 pin and the REF pin. The gain is equal to one when both GAIN1 and GAIN2 are open. See Applications section for additional (See Datasheet)"

## LT1990AHS8#PBF
designator U?
Single Channel, Integrated Resistors, Micropower, Difference Amplifier, 0.1 MHz Typical GBW, 0.55 V/us Typical SR, 2.4 to 36 V, 8-Pin SOIC (S8-8), High Temperature / Automotive, Pb-Free; Linear Technology Part Number: LT1990; Manufacturer: Linear Technology; PartNumber: LT1990AHS8#PBF; Channels (#): 1; GBW (MHz) Typical: 0.1; Is (mA) Typical: 0.14; SR (V/us) Typical: 0.55; Vos (mV) Guaranteed: 5.2; Vos (mV) Typical: 0.9; Vs Max (V): 36; Vs Min (V): 2.4; DatasheetVersion: Rev. B; PackageVersion: Rev G; PackageReference: LT-S8-8; PackageDescription: 8-Pin Plastic Small Outline, Body 4.9 x 3.9 mm, Pitch 1.27 mm; Supplier 1: Digi-Key; Supplier Part Number 1: LT1990AHS8#PBF-ND; Supplier 2: Newark; Supplier Part Number 2: 57M7651; RoHS: Pb-Free; Type: SGA; Mounting Technology: Surface Mount; ComponentLink1Description: Manufacturer URL; ComponentLink1URL: http://www.linear.com/; ComponentLink2Description: Datasheet; ComponentLink2URL: http://cds.linear.com/docs/en/datasheet/1990fb.pdf; ComponentLink3Description: Package Specification; ComponentLink3URL: http://cds.linear.com/docs/en/packaging/05081610_G_SO8.pdf
footprint LT-S8-8_N (SOIC, 8-Leads, Body 4.9x3.9mm, Pitch 1.27mm, IPC Medium Density)
footprint LT-S8-8_L (SOIC, 8-Leads, Body 4.9x3.9mm, Pitch 1.27mm, IPC High Density)
footprint LT-S8-8_M (SOIC, 8-Leads, Body 4.9x3.9mm, Pitch 1.27mm, IPC Low Density)
pins: 1 REF (in) "Reference Input. Sets the output level when the difference between the inputs is zero.", 2 -IN (in) "Inverting Input. Connects a 1Mohm resistor to the op amp’s inverting input. Designed to permit high voltage operation.", 3 +IN (in) "Noninverting Input. Connects a 1Mohm resistor to the op amp’s noninverting input. Designed to permit high voltage operation.", 4 V- (power) "Negative Power Supply. Can be either ground (in single supply applications) or a negative voltage (in split supply applications).", 5 GAIN2 (in) "Gain = 10 Select Input. Configures the amplifier for a gain of 10 when connected to the GAIN1 pin and the REF pin. The gain is equal to one when both GAIN2 and GAIN1 are open. See Applications section for additional (See Datasheet)", 6 OUT (out) "Output. VOUT = G • (V+IN - V-IN) + VREF, in the basic configuration.", 7 V+ (power) "Positive Power Supply. Can range from 2.7V to 36V above the V- voltage.", 8 GAIN1 (in) "Gain = 10 Select Input. Configures the amplifier for a gain of 10 when connected to the GAIN2 pin and the REF pin. The gain is equal to one when both GAIN1 and GAIN2 are open. See Applications section for additional (See Datasheet)"

## LT1990AHS8#TR
designator U?
Single Channel, Integrated Resistors, Micropower, Difference Amplifier, 0.1 MHz Typical GBW, 0.55 V/us Typical SR, 2.4 to 36 V, 8-Pin SOIC (S8-8), High Temperature / Automotive, Reel; Linear Technology Part Number: LT1990; Manufacturer: Linear Technology; PartNumber: LT1990AHS8#TR; Channels (#): 1; GBW (MHz) Typical: 0.1; Is (mA) Typical: 0.14; SR (V/us) Typical: 0.55; Vos (mV) Guaranteed: 5.2; Vos (mV) Typical: 0.9; Vs Max (V): 36; Vs Min (V): 2.4; DatasheetVersion: Rev. B; PackageVersion: Rev G; PackageReference: LT-S8-8; PackageDescription: 8-Pin Plastic Small Outline, Body 4.9 x 3.9 mm, Pitch 1.27 mm; Packing: Reel; Type: SGA; Mounting Technology: Surface Mount; ComponentLink1Description: Manufacturer URL; ComponentLink1URL: http://www.linear.com/; ComponentLink2Description: Datasheet; ComponentLink2URL: http://cds.linear.com/docs/en/datasheet/1990fb.pdf; ComponentLink3Description: Package Specification; ComponentLink3URL: http://cds.linear.com/docs/en/packaging/05081610_G_SO8.pdf
footprint LT-S8-8_N (SOIC, 8-Leads, Body 4.9x3.9mm, Pitch 1.27mm, IPC Medium Density)
footprint LT-S8-8_L (SOIC, 8-Leads, Body 4.9x3.9mm, Pitch 1.27mm, IPC High Density)
footprint LT-S8-8_M (SOIC, 8-Leads, Body 4.9x3.9mm, Pitch 1.27mm, IPC Low Density)
pins: 1 REF (in) "Reference Input. Sets the output level when the difference between the inputs is zero.", 2 -IN (in) "Inverting Input. Connects a 1Mohm resistor to the op amp’s inverting input. Designed to permit high voltage operation.", 3 +IN (in) "Noninverting Input. Connects a 1Mohm resistor to the op amp’s noninverting input. Designed to permit high voltage operation.", 4 V- (power) "Negative Power Supply. Can be either ground (in single supply applications) or a negative voltage (in split supply applications).", 5 GAIN2 (in) "Gain = 10 Select Input. Configures the amplifier for a gain of 10 when connected to the GAIN1 pin and the REF pin. The gain is equal to one when both GAIN2 and GAIN1 are open. See Applications section for additional (See Datasheet)", 6 OUT (out) "Output. VOUT = G • (V+IN - V-IN) + VREF, in the basic configuration.", 7 V+ (power) "Positive Power Supply. Can range from 2.7V to 36V above the V- voltage.", 8 GAIN1 (in) "Gain = 10 Select Input. Configures the amplifier for a gain of 10 when connected to the GAIN2 pin and the REF pin. The gain is equal to one when both GAIN1 and GAIN2 are open. See Applications section for additional (See Datasheet)"

## LT1990AHS8#TRPBF
designator U?
Single Channel, Integrated Resistors, Micropower, Difference Amplifier, 0.1 MHz Typical GBW, 0.55 V/us Typical SR, 2.4 to 36 V, 8-Pin SOIC (S8-8), High Temperature / Automotive, Pb-Free, Reel; Linear Technology Part Number: LT1990; Manufacturer: Linear Technology; PartNumber: LT1990AHS8#TRPBF; Channels (#): 1; GBW (MHz) Typical: 0.1; Is (mA) Typical: 0.14; SR (V/us) Typical: 0.55; Vos (mV) Guaranteed: 5.2; Vos (mV) Typical: 0.9; Vs Max (V): 36; Vs Min (V): 2.4; DatasheetVersion: Rev. B; PackageVersion: Rev G; PackageReference: LT-S8-8; PackageDescription: 8-Pin Plastic Small Outline, Body 4.9 x 3.9 mm, Pitch 1.27 mm; Supplier 1: Digi-Key; Supplier Part Number 1: LT1990AHS8#TRPBF-ND; Supplier 2: Newark; Supplier Part Number 2: 57M7653; Packing: Reel; RoHS: Pb-Free; Type: SGA; Mounting Technology: Surface Mount; ComponentLink1Description: Manufacturer URL; ComponentLink1URL: http://www.linear.com/; ComponentLink2Description: Datasheet; ComponentLink2URL: http://cds.linear.com/docs/en/datasheet/1990fb.pdf; ComponentLink3Description: Package Specification; ComponentLink3URL: http://cds.linear.com/docs/en/packaging/05081610_G_SO8.pdf
footprint LT-S8-8_N (SOIC, 8-Leads, Body 4.9x3.9mm, Pitch 1.27mm, IPC Medium Density)
footprint LT-S8-8_L (SOIC, 8-Leads, Body 4.9x3.9mm, Pitch 1.27mm, IPC High Density)
footprint LT-S8-8_M (SOIC, 8-Leads, Body 4.9x3.9mm, Pitch 1.27mm, IPC Low Density)
pins: 1 REF (in) "Reference Input. Sets the output level when the difference between the inputs is zero.", 2 -IN (in) "Inverting Input. Connects a 1Mohm resistor to the op amp’s inverting input. Designed to permit high voltage operation.", 3 +IN (in) "Noninverting Input. Connects a 1Mohm resistor to the op amp’s noninverting input. Designed to permit high voltage operation.", 4 V- (power) "Negative Power Supply. Can be either ground (in single supply applications) or a negative voltage (in split supply applications).", 5 GAIN2 (in) "Gain = 10 Select Input. Configures the amplifier for a gain of 10 when connected to the GAIN1 pin and the REF pin. The gain is equal to one when both GAIN2 and GAIN1 are open. See Applications section for additional (See Datasheet)", 6 OUT (out) "Output. VOUT = G • (V+IN - V-IN) + VREF, in the basic configuration.", 7 V+ (power) "Positive Power Supply. Can range from 2.7V to 36V above the V- voltage.", 8 GAIN1 (in) "Gain = 10 Select Input. Configures the amplifier for a gain of 10 when connected to the GAIN2 pin and the REF pin. The gain is equal to one when both GAIN1 and GAIN2 are open. See Applications section for additional (See Datasheet)"

## LT1990AIS8
designator U?
Single Channel, Integrated Resistors, Micropower, Difference Amplifier, 0.1 MHz Typical GBW, 0.55 V/us Typical SR, 2.4 to 36 V, 8-Pin SOIC (S8-8), Industrial; Linear Technology Part Number: LT1990; Manufacturer: Linear Technology; PartNumber: LT1990AIS8; Channels (#): 1; GBW (MHz) Typical: 0.1; Is (mA) Typical: 0.14; SR (V/us) Typical: 0.55; Vos (mV) Guaranteed: 5.2; Vos (mV) Typical: 0.9; Vs Max (V): 36; Vs Min (V): 2.4; DatasheetVersion: Rev. B; PackageVersion: Rev G; PackageReference: LT-S8-8; PackageDescription: 8-Pin Plastic Small Outline, Body 4.9 x 3.9 mm, Pitch 1.27 mm; Supplier 1: Digi-Key; Supplier Part Number 1: LT1990AIS8-ND; Type: SGA; Mounting Technology: Surface Mount; ComponentLink1Description: Manufacturer URL; ComponentLink1URL: http://www.linear.com/; ComponentLink2Description: Datasheet; ComponentLink2URL: http://cds.linear.com/docs/en/datasheet/1990fb.pdf; ComponentLink3Description: Package Specification; ComponentLink3URL: http://cds.linear.com/docs/en/packaging/05081610_G_SO8.pdf
footprint LT-S8-8_N (SOIC, 8-Leads, Body 4.9x3.9mm, Pitch 1.27mm, IPC Medium Density)
footprint LT-S8-8_L (SOIC, 8-Leads, Body 4.9x3.9mm, Pitch 1.27mm, IPC High Density)
footprint LT-S8-8_M (SOIC, 8-Leads, Body 4.9x3.9mm, Pitch 1.27mm, IPC Low Density)
pins: 1 REF (in) "Reference Input. Sets the output level when the difference between the inputs is zero.", 2 -IN (in) "Inverting Input. Connects a 1Mohm resistor to the op amp’s inverting input. Designed to permit high voltage operation.", 3 +IN (in) "Noninverting Input. Connects a 1Mohm resistor to the op amp’s noninverting input. Designed to permit high voltage operation.", 4 V- (power) "Negative Power Supply. Can be either ground (in single supply applications) or a negative voltage (in split supply applications).", 5 GAIN2 (in) "Gain = 10 Select Input. Configures the amplifier for a gain of 10 when connected to the GAIN1 pin and the REF pin. The gain is equal to one when both GAIN2 and GAIN1 are open. See Applications section for additional (See Datasheet)", 6 OUT (out) "Output. VOUT = G • (V+IN - V-IN) + VREF, in the basic configuration.", 7 V+ (power) "Positive Power Supply. Can range from 2.7V to 36V above the V- voltage.", 8 GAIN1 (in) "Gain = 10 Select Input. Configures the amplifier for a gain of 10 when connected to the GAIN2 pin and the REF pin. The gain is equal to one when both GAIN1 and GAIN2 are open. See Applications section for additional (See Datasheet)"